# Altium schematic symbol library 12_RES_THD_AX14_8mm.SchLib: 9 symbols
Pins are listed as number, name and electrical type; pins without a type are passive.

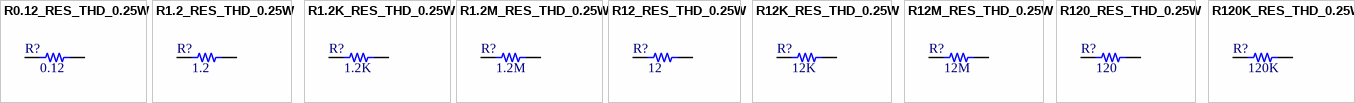
[diagram p0: symbols R0.12_RES_THD_0.25W to R120K_RES_THD_0.25W]

## R0.12_RES_THD_0.25W
designator R?, comment 0.12
RES_THD_0.25W-0.12; Rating: 0.25; Package: THT; Type: 5%; Value: 0.12
footprint R0.12_RES_THD_AX14_0.25W (RES_THD_AX14_0.25W-0.12_ 8 mm)
pins: 1, 2

## R1.2_RES_THD_0.25W
designator R?, comment 1.2
RES_THD_0.25W-1.2; Rating: 0.25; Package: THT; Type: 5%; Parameter 1: *; Value: 1.2
footprint R1.2_RES_THD_AX14_0.25W (RES_THD_AX14_0.25W-1.2 8 mm)
pins: 1, 2

## R1.2K_RES_THD_0.25W
designator R?, comment 1.2K
RES_THD_0.25W-1.2K; Rating: 0.25; Package: THT; Type: 5%; Value: 1.2K
footprint R1.2K_RES_THD_AX14_0.25W (RES_THD_AX14_0.25W -1.2K 8 mm)
pins: 1, 2

## R1.2M_RES_THD_0.25W
designator R?, comment 1.2M
RES_THD_0.25W-1.2M; Rating: 0.25; Package: THT; Type: 5%; Value: 1.2M
footprint R1.2M_RES_THD_AX14_0.25W (RES_THD_AX14_0.25W -1.2M 8mm)
pins: 1, 2

## R12_RES_THD_0.25W
designator R?, comment 12
RES_THD_0.25W-12; Rating: 0.25; Package: THT; Type: 5%; Parameter 1: *; Value: 12
footprint R12_RES_THD_AX14_0.25W (RES_THD_AX14_0.25W -12 8 mm)
pins: 1, 2

## R12K_RES_THD_0.25W
designator R?, comment 12K
RES_THD_0.25W-12K; Rating: 0.25; Package: THT; Type: 5%; Parameter 1: *; Value: 12K
footprint R12K_RES_THD_AX14_0.25W (RES_THD_AX14_0.25W -12K 8mm)
pins: 1, 2

## R12M_RES_THD_0.25W
designator R?, comment 12M
RES_THD_0.25W-12M; Rating: 0.25; Package: THT; Type: 5%; Value: 12M
footprint R12M_RES_THD_AX14_0.25W (RES_THD_AX14_0.25W -12M 8 mm)
pins: 1, 2

## R120_RES_THD_0.25W
designator R?, comment 120
RES_THD_0.25W-120; Rating: 0.25; Package: THT; Type: 5%; Parameter 1: *; Value: 120
footprint R120_RES_THD_AX14_0.25W (RES_THD_AX14_0.25W -120 8 mm)
pins: 1, 2

## R120K_RES_THD_0.25W
designator R?, comment 120K
RES_THD_0.25W-120K; Rating: 0.25; Package: THT; Type: 5%; Value: 120K
footprint R120K_RES_THD_AX14_0.25W (RES_THD_AX14_0.25W -120K 8 mm)
pins: 1, 2